# Altium schematic symbol library Schlib.SchLib: 1 symbol
Pins are listed as number, name and electrical type; pins without a type are passive.

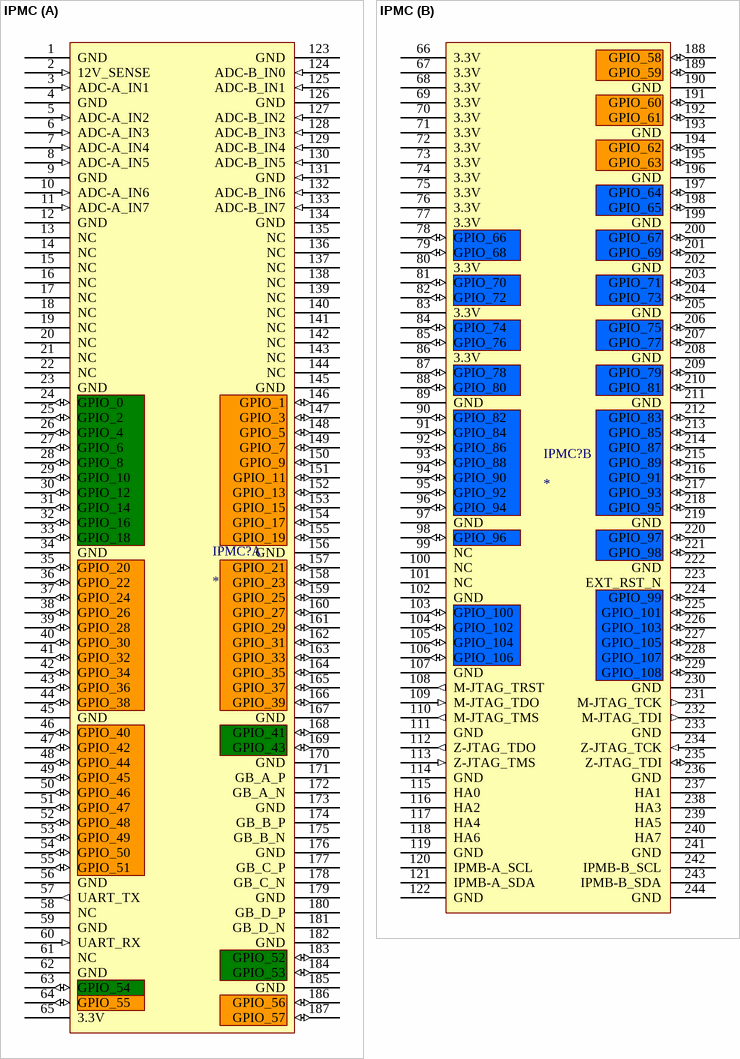
[diagram p0: symbol IPMC]

## IPMC
designator IPMC?
ZYNQ-IPMC revB (mates with Molex 87782-0301); Part: 87783-0301; Manufacturer: Molex; INVKEY: *
footprint 87783-0301 (Molex 87783-0301)
part A pins: 1 GND, 2 12V_SENSE (in), 3 ADC-A_IN1 (in), 4 GND, 5 ADC-A_IN2 (in), 6 ADC-A_IN3 (in), 7 ADC-A_IN4 (in), 8 ADC-A_IN5 (in), 9 GND, 10 ADC-A_IN6 (in), 11 ADC-A_IN7 (in), 12 GND, 13 NC, 14 NC, 15 NC, 16 NC, 17 NC, 18 NC, 19 NC, 20 NC, 21 NC, 22 NC, 23 GND, 24 GPIO_0 (io), 25 GPIO_2 (io), 26 GPIO_4 (io), 27 GPIO_6 (io), 28 GPIO_8 (io), 29 GPIO_10 (io), 30 GPIO_12 (io), 31 GPIO_14 (io), 32 GPIO_16 (io), 33 GPIO_18 (io), 34 GND, 35 GPIO_20 (io), 36 GPIO_22 (io), 37 GPIO_24 (io), 38 GPIO_26 (io), 39 GPIO_28 (io), 40 GPIO_30 (io), 41 GPIO_32 (io), 42 GPIO_34 (io), 43 GPIO_36 (io), 44 GPIO_38 (io), 45 GND, 46 GPIO_40 (io), 47 GPIO_42 (io), 48 GPIO_44 (io), 49 GPIO_45 (io), 50 GPIO_46 (io), 51 GPIO_47 (io), 52 GPIO_48 (io), 53 GPIO_49 (io), 54 GPIO_50 (io), 55 GPIO_51 (io), 56 GND, 57 UART_TX (out), 58 NC, 59 GND, 60 UART_RX (in), 61 NC, 62 GND, 63 GPIO_54 (io), 64 GPIO_55 (io), 65 3.3V (power), 123 GND, 124 ADC-B_IN0 (in), 125 ADC-B_IN1 (in), 126 GND, 127 ADC-B_IN2 (in), 128 ADC-B_IN3 (in), 129 ADC-B_IN4 (in), 130 ADC-B_IN5 (in), 131 GND (in), 132 ADC-B_IN6 (in), 133 ADC-B_IN7 (in), 134 GND, 135 NC, 136 NC, 137 NC, 138 NC, 139 NC, 140 NC, 141 NC, 142 NC, 143 NC, 144 NC, 145 GND, 146 GPIO_1 (io), 147 GPIO_3 (io), 148 GPIO_5 (io), 149 GPIO_7 (io), 150 GPIO_9 (io), 151 GPIO_11 (io), 152 GPIO_13 (io), 153 GPIO_15 (io), 154 GPIO_17 (io), 155 GPIO_19 (io), 156 GND, 157 GPIO_21 (io), 158 GPIO_23 (io), 159 GPIO_25 (io), 160 GPIO_27 (io), 161 GPIO_29 (io), 162 GPIO_31 (io), 163 GPIO_33 (io), 164 GPIO_35 (io), 165 GPIO_37 (io), 166 GPIO_39 (io), 167 GND, 168 GPIO_41 (io), 169 GPIO_43 (io), 170 GND, 171 GB_A_P, 172 GB_A_N, 173 GND, 174 GB_B_P, 175 GB_B_N, 176 GND, 177 GB_C_P, 178 GB_C_N, 179 GND, 180 GB_D_P, 181 GB_D_N, 182 GND, 183 GPIO_52 (io), 184 GPIO_53 (io), 185 GND, 186 GPIO_56 (io), 187 GPIO_57 (io)
part B pins: 66 3.3V (power), 67 3.3V (power), 68 3.3V (power), 69 3.3V (power), 70 3.3V (power), 71 3.3V (power), 72 3.3V (power), 73 3.3V (power), 74 3.3V (power), 75 3.3V (power), 76 3.3V (power), 77 3.3V (power), 78 GPIO_66 (io), 79 GPIO_68 (io), 80 3.3V (power), 81 GPIO_70 (io), 82 GPIO_72 (io), 83 3.3V (power), 84 GPIO_74 (io), 85 GPIO_76 (io), 86 3.3V (power), 87 GPIO_78 (io), 88 GPIO_80 (io), 89 GND, 90 GPIO_82 (io), 91 GPIO_84 (io), 92 GPIO_86 (io), 93 GPIO_88 (io), 94 GPIO_90 (io), 95 GPIO_92 (io), 96 GPIO_94 (io), 97 GND, 98 GPIO_96 (io), 99 NC, 100 NC, 101 NC, 102 GND, 103 GPIO_100 (io), 104 GPIO_102 (io), 105 GPIO_104 (io), 106 GPIO_106 (io), 107 GND, 108 M-JTAG_TRST (out), 109 M-JTAG_TDO (in), 110 M-JTAG_TMS (out), 111 GND, 112 Z-JTAG_TDO (out), 113 Z-JTAG_TMS (in), 114 GND, 115 HA0, 116 HA2, 117 HA4, 118 HA6, 119 GND, 120 IPMB-A_SCL, 121 IPMB-A_SDA, 122 GND, 188 GPIO_58 (io), 189 GPIO_59 (io), 190 GND, 191 GPIO_60 (io), 192 GPIO_61 (io), 193 GND, 194 GPIO_62 (io), 195 GPIO_63 (io), 196 GND, 197 GPIO_64 (io), 198 GPIO_65 (io), 199 GND, 200 GPIO_67 (io), 201 GPIO_69 (io), 202 GND, 203 GPIO_71 (io), 204 GPIO_73 (io), 205 GND, 206 GPIO_75 (io), 207 GPIO_77 (io), 208 GND, 209 GPIO_79 (io), 210 GPIO_81 (io), 211 GND, 212 GPIO_83 (io), 213 GPIO_85 (io), 214 GPIO_87 (io), 215 GPIO_89 (io), 216 GPIO_91 (io), 217 GPIO_93 (io), 218 GPIO_95 (io), 219 GND, 220 GPIO_97 (io), 221 GPIO_98 (io), 222 GND, 223 EXT_RST_N, 224 GPIO_99 (io), 225 GPIO_101 (io), 226 GPIO_103 (io), 227 GPIO_105 (io), 228 GPIO_107 (io), 229 GPIO_108 (io), 230 GND, 231 M-JTAG_TCK (out), 232 M-JTAG_TDI (out), 233 GND, 234 Z-JTAG_TCK (in), 235 Z-JTAG_TDI (io), 236 GND, 237 HA1, 238 HA3, 239 HA5, 240 HA7, 241 GND, 242 IPMB-B_SCL, 243 IPMB-B_SDA, 244 GND